# EAGLE library part REG-XCL223 (library SomTest1)
Manufacturer: Torex Semiconductor Ltd Manufacturer Part Number: XCL223A333D2-G DC DC CONVERTER 3.3V Detailed Description: Non-Isolated PoL Modul $2.63 https://www.digikey.com/product-detail/en/torex-semiconductor-ltd/XCL223A333D2-G/893-1416-1-ND/8256118 CIN=4.7uF 10V CL = 10uF 10V VIN MAX=5.5V VOUT=3.3V
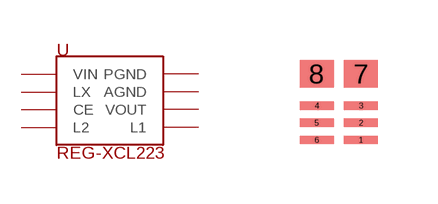
[diagram p2: symbol with the pads of REG-XCL223-LESS-CREAM; footprint REG-XCL223-LESS-CREAM]

Designator prefix U

## REG-XCL223 (VALUE: XCL223)  [REG-XCL223-LESS-CREAM]
1  PGND  pas
2  AGND  pas
3  VOUT  pas
4  CE  in
5  LX  pas
6  VIN  pwr
7  L1  pas
8  L2  pas

## Footprint REG-XCL223-LESS-CREAM (pad centres in mm)
smd 0.85 x 0.21: 1 0,0; 2 0,0.43; 3 0,0.86; 4 -1.11,0.86; 5 -1.11,0.43; 6 -1.11,0
smd 0.85 x 0.7: 7 0,1.655; 8 -1.11,1.655